# EAGLE library part 10214-6212PC (library 3M_By_element14_Batch_1)
CONN MDR RECPT 14POS VERT T/H
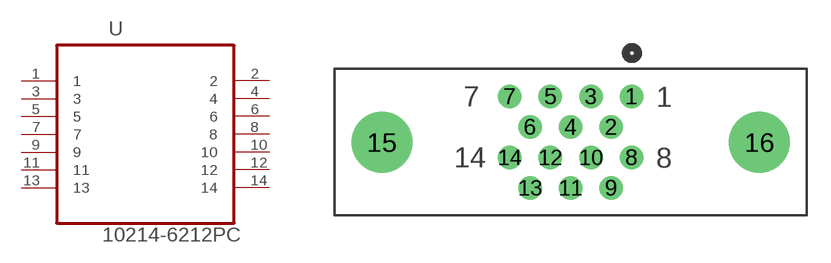
[diagram p0: symbol with the pads of 3M_10214-6212PC; footprint 3M_10214-6212PC]

Designator prefix U

## 10214-6212PC (MPN: 10214-6212PC; OC_FARNELL: 1250004; OC_NEWARK: 93K6329; PACKAGE: MDR RECPT 14POS VERT T/H; SUPPLIER: 3M)  [3M_10214-6212PC]
1  1  pas
2  2  pas
3  3  pas
4  4  pas
5  5  pas
6  6  pas
7  7  pas
8  8  pas
9  9  pas
10  10  pas
11  11  pas
12  12  pas
13  13  pas
14  14  pas

## Footprint 3M_10214-6212PC (pad centres in mm)
drill 0.965: 1 7.62,5.715; 2 6.35,3.81; 3 5.08,5.715; 4 3.81,3.81; 5 2.54,5.715; 6 1.27,3.81; 7 0,5.715; 8 7.62,1.905; 9 6.35,0; 10 5.08,1.905; 11 3.81,0; 12 2.54,1.905; 13 1.27,0; 14 0,1.905
drill 2.794: 15 -8.001,2.845; 16 15.621,2.845